# Altium schematic symbol library NUCLEO-F429ZI.SchLib: 1 symbol
Pins are listed as number, name and electrical type; pins without a type are passive.

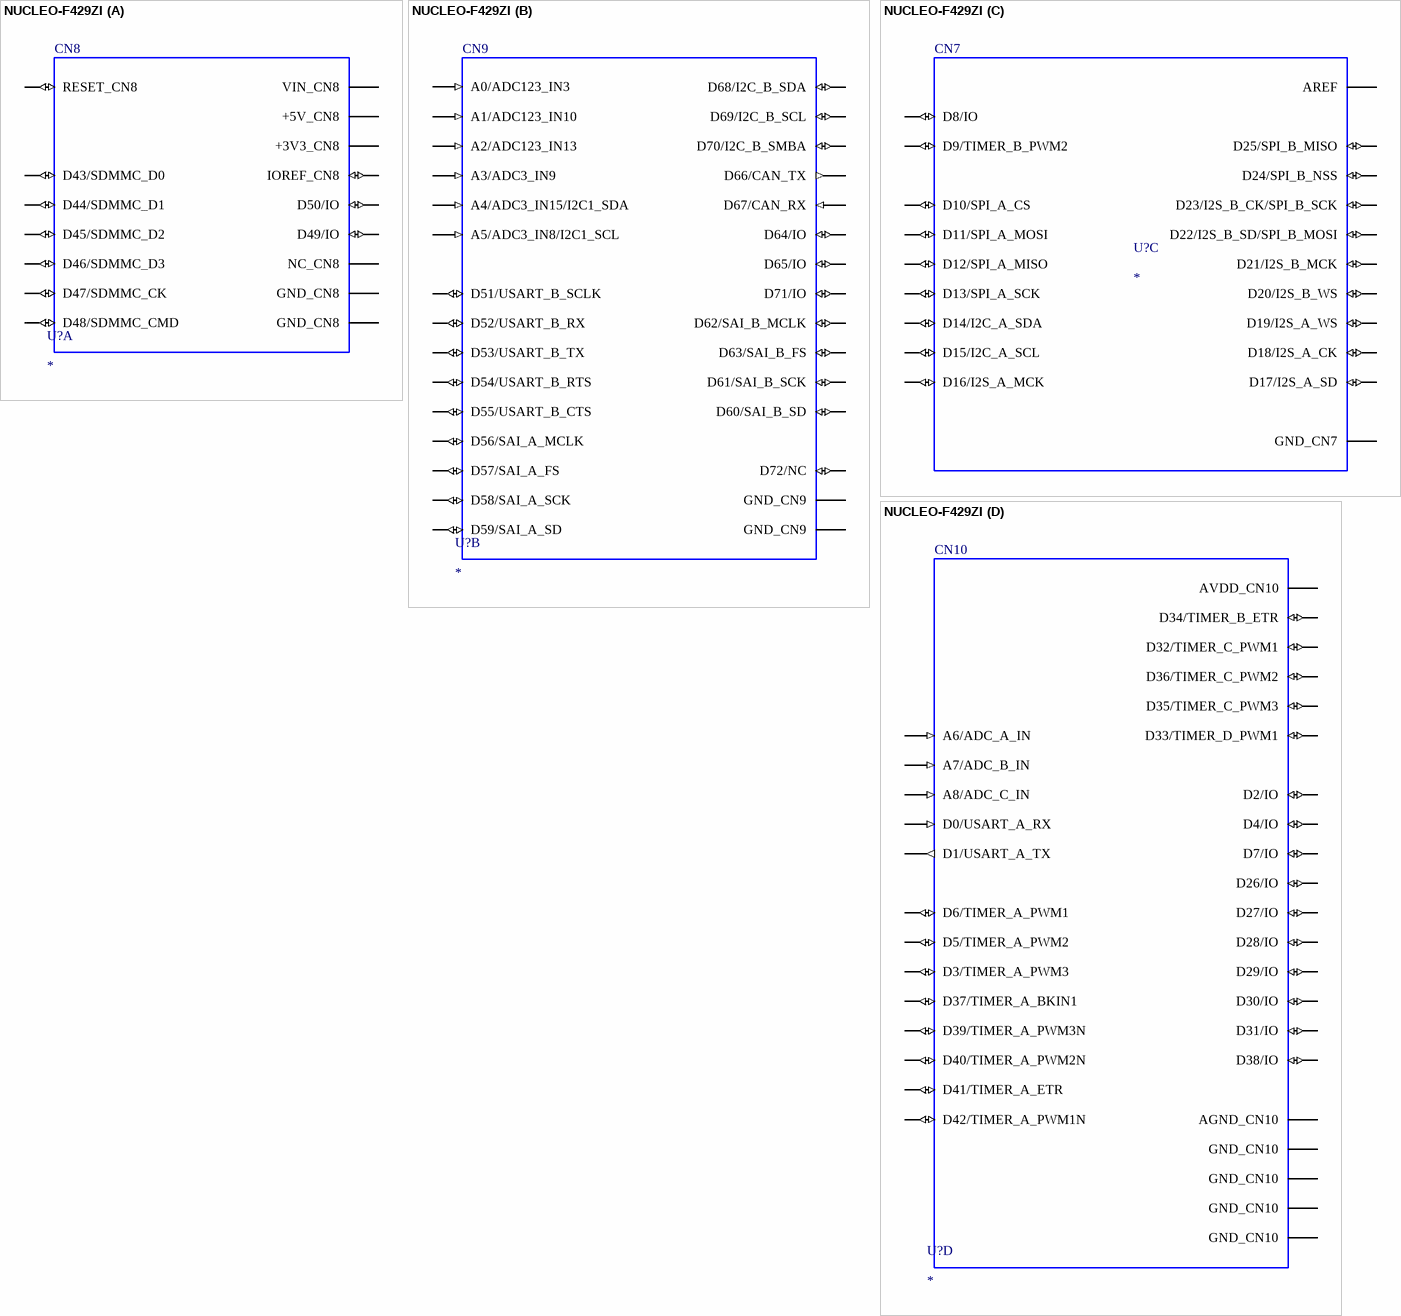
[diagram p0: symbol NUCLEO-F429ZI]

## NUCLEO-F429ZI
designator U?
STM32F429ZI, mbed-Enabled Development Nucleo-144 STM32F4 ARMÂ® CortexÂ®-M4 MCU 32-Bit Embedded Evaluation Board; MF: STMicroelectronics; MP: NUCLEO-F429ZI; SnapEDA_Link: https://www.snapeda.com/parts/NUCLEO-F429ZI/STMicroelectronics/view-part/?ref=snap; Package: None; Value: *; Check_prices: https://www.snapeda.com/parts/NUCLEO-F429ZI/STMicroelectronics/view-part/?ref=eda
footprint MODULE_NUCLEO-F429ZI
part A pins: CN8_1 NC_CN8, CN8_2 D43/SDMMC_D0 (io), CN8_3 IOREF_CN8 (io), CN8_4 D44/SDMMC_D1 (io), CN8_5 RESET_CN8 (io), CN8_6 D45/SDMMC_D2 (io), CN8_7 +3V3_CN8 (power), CN8_8 D46/SDMMC_D3 (io), CN8_9 +5V_CN8 (power), CN8_10 D47/SDMMC_CK (io), CN8_11 GND_CN8 (power), CN8_12 D48/SDMMC_CMD (io), CN8_13 GND_CN8 (power), CN8_14 D49/IO (io), CN8_15 VIN_CN8 (power), CN8_16 D50/IO (io)
part B pins: CN9_1 A0/ADC123_IN3 (in), CN9_2 D51/USART_B_SCLK (io), CN9_3 A1/ADC123_IN10 (in), CN9_4 D52/USART_B_RX (io), CN9_5 A2/ADC123_IN13 (in), CN9_6 D53/USART_B_TX (io), CN9_7 A3/ADC3_IN9 (in), CN9_8 D54/USART_B_RTS (io), CN9_9 A4/ADC3_IN15/I2C1_SDA (in), CN9_10 D55/USART_B_CTS (io), CN9_11 A5/ADC3_IN8/I2C1_SCL (in), CN9_12 GND_CN9 (power), CN9_13 D72/NC (io), CN9_14 D56/SAI_A_MCLK (io), CN9_15 D71/IO (io), CN9_16 D57/SAI_A_FS (io), CN9_17 D70/I2C_B_SMBA (io), CN9_18 D58/SAI_A_SCK (io), CN9_19 D69/I2C_B_SCL (io), CN9_20 D59/SAI_A_SD (io), CN9_21 D68/I2C_B_SDA (io), CN9_22 D60/SAI_B_SD (io), CN9_23 GND_CN9 (power), CN9_24 D61/SAI_B_SCK (io), CN9_25 D67/CAN_RX (in), CN9_26 D62/SAI_B_MCLK (io), CN9_27 D66/CAN_TX (out), CN9_28 D63/SAI_B_FS (io), CN9_29 D65/IO (io), CN9_30 D64/IO (io)
part C pins: CN7_1 D16/I2S_A_MCK (io), CN7_2 D15/I2C_A_SCL (io), CN7_3 D17/I2S_A_SD (io), CN7_4 D14/I2C_A_SDA (io), CN7_5 D18/I2S_A_CK (io), CN7_6 AREF (power), CN7_7 D19/I2S_A_WS (io), CN7_8 GND_CN7 (power), CN7_9 D20/I2S_B_WS (io), CN7_10 D13/SPI_A_SCK (io), CN7_11 D21/I2S_B_MCK (io), CN7_12 D12/SPI_A_MISO (io), CN7_13 D22/I2S_B_SD/SPI_B_MOSI (io), CN7_14 D11/SPI_A_MOSI (io), CN7_15 D23/I2S_B_CK/SPI_B_SCK (io), CN7_16 D10/SPI_A_CS (io), CN7_17 D24/SPI_B_NSS (io), CN7_18 D9/TIMER_B_PWM2 (io), CN7_19 D25/SPI_B_MISO (io), CN7_20 D8/IO (io)
part D pins: CN10_1 AVDD_CN10 (power), CN10_2 D7/IO (io), CN10_3 AGND_CN10 (power), CN10_4 D6/TIMER_A_PWM1 (io), CN10_5 GND_CN10 (power), CN10_6 D5/TIMER_A_PWM2 (io), CN10_7 A6/ADC_A_IN (in), CN10_8 D4/IO (io), CN10_9 A7/ADC_B_IN (in), CN10_10 D3/TIMER_A_PWM3 (io), CN10_11 A8/ADC_C_IN (in), CN10_12 D2/IO (io), CN10_13 D26/IO (io), CN10_14 D1/USART_A_TX (out), CN10_15 D27/IO (io), CN10_16 D0/USART_A_RX (in), CN10_17 GND_CN10 (power), CN10_18 D42/TIMER_A_PWM1N (io), CN10_19 D28/IO (io), CN10_20 D41/TIMER_A_ETR (io), CN10_21 D29/IO (io), CN10_22 GND_CN10 (power), CN10_23 D30/IO (io), CN10_24 D40/TIMER_A_PWM2N (io), CN10_25 D31/IO (io), CN10_26 D39/TIMER_A_PWM3N (io), CN10_27 GND_CN10 (power), CN10_28 D38/IO (io), CN10_29 D32/TIMER_C_PWM1 (io), CN10_30 D37/TIMER_A_BKIN1 (io), CN10_31 D33/TIMER_D_PWM1 (io), CN10_32 D36/TIMER_C_PWM2 (io), CN10_33 D34/TIMER_B_ETR (io), CN10_34 D35/TIMER_C_PWM3 (io)
part A text: CN8
part B text: CN9
part C text: CN7
part D text: CN10